# Altium footprint library OTHER.PCBLIB: 126 footprints (part 6 of 8)
Each footprint in its own frame and in the unit in brackets; x right, y up, seen from the top. Pads: shape width x height; smd on the part's side, far side on the other; paste and mask are expansions set on the pad; w line width, h text height; cw(c..) or ccw(c..) is an arc to the next point about the centre after c.
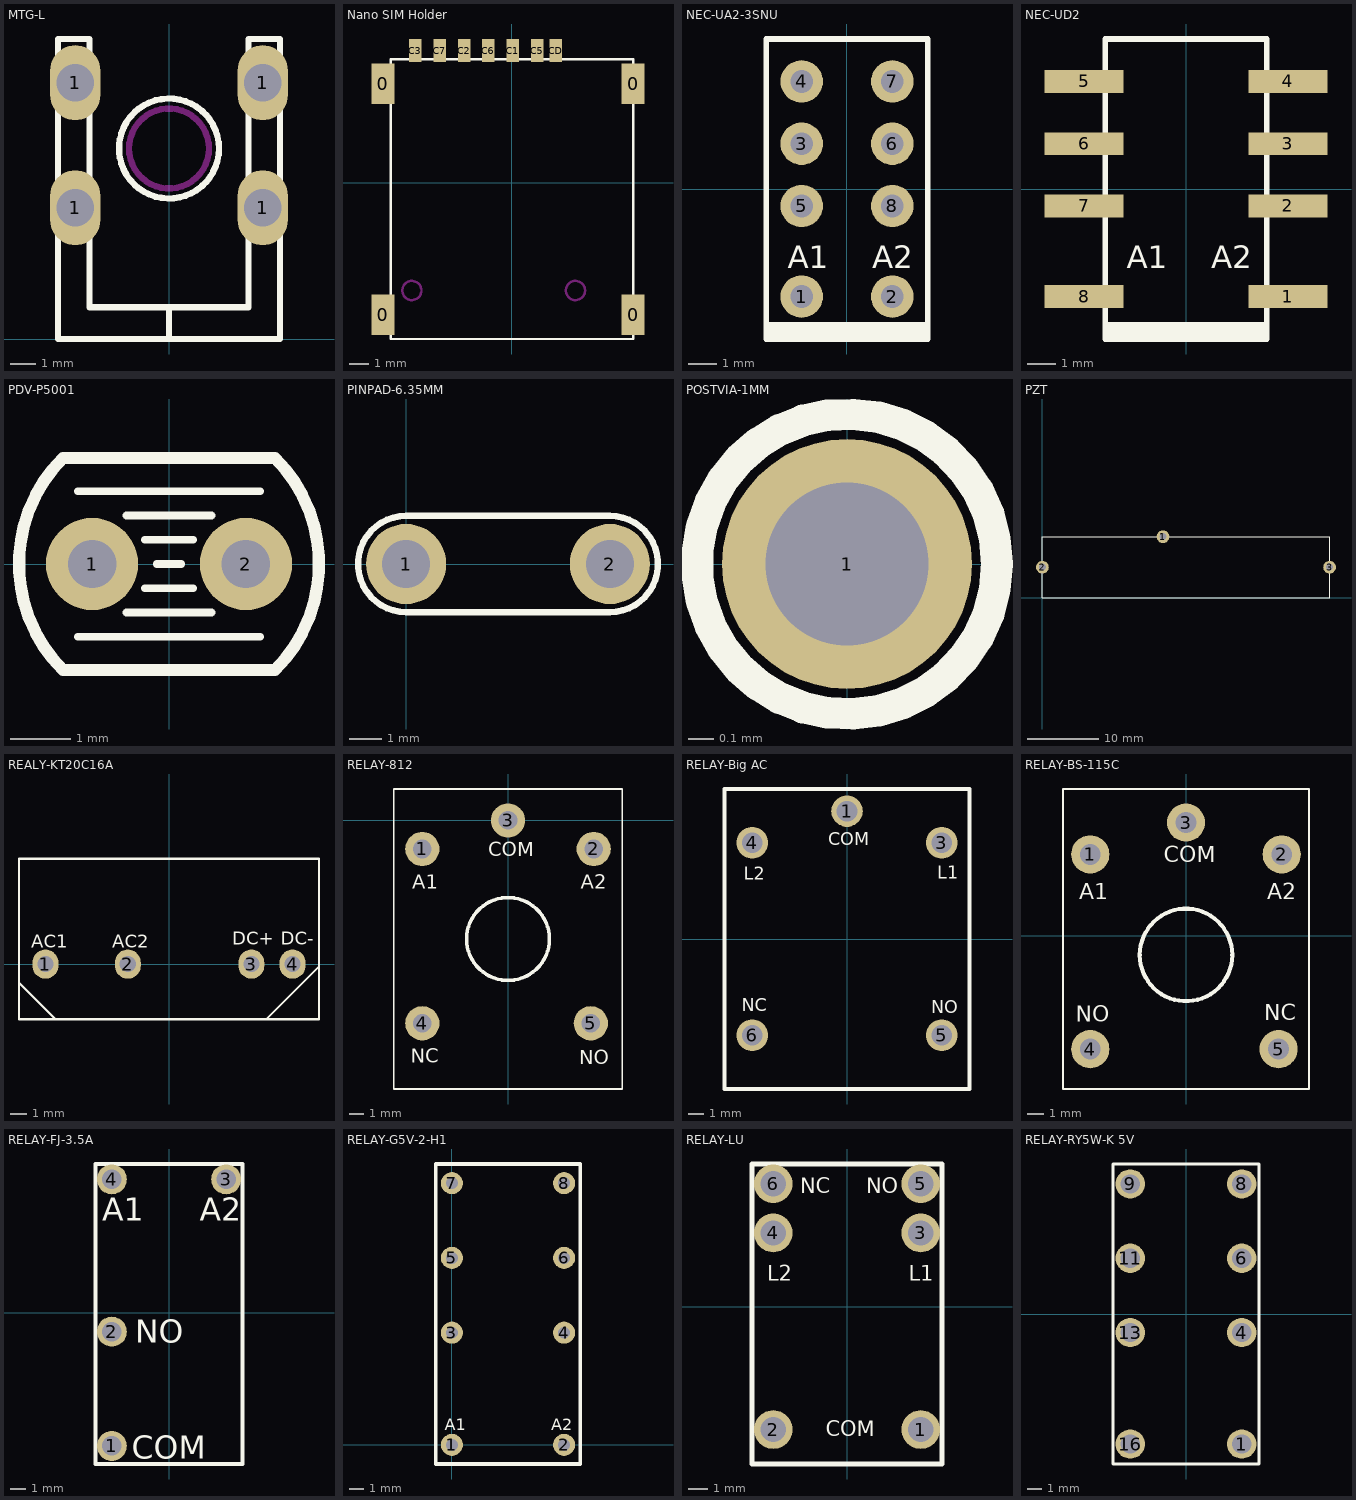
[diagram p5: the footprints below, top view; thin cyan lines are the x and y axes]

## MTG-L [mm]
pads (4):
  oval 2x3 hole 1.5: 1(-3.75,5.25) 1(-3.75,10.25) 1(3.75,5.25) 1(3.75,10.25)
TopOverlay:
  circle w0.254: c0,7.62 r2
  lines w0.25: 0,1.27 0,0 ; 0,0 4.445,0 4.445,12 3.175,12 3.175,1.27 -3.175,1.27 -3.175,12 -4.445,12 -4.445,0 0,0
KeepOutLayer:
  circle w0.254: c0,7.62 r1.6

## Nano SIM Holder [mm] "Nano SIM Holder"
pads (11):
  rect 1.2x2.1 smd: 0(-6.702,-6.857) 0(-6.702,5.143) 0(6.288,-6.857) 0(6.288,5.143)
  rect 0.65x1.2 smd: C1(0.048,6.858) C2(-2.492,6.858) C3(-5.032,6.858) C5(1.318,6.858) C6(-1.222,6.858) C7(-3.762,6.858) CD(2.268,6.858)
TopOverlay:
  lines w0.127: -6.297,-8.127 6.298,-8.127 6.298,6.413 -6.297,6.413 -6.297,-8.127
KeepOutLayer:
  circle w0.127: c3.298,-5.607 r0.5
  circle w0.127: c-5.202,-5.607 r0.5

## NEC-UA2-3SNU [mm]
pads (8):
  round 1.5 hole 0.8: 1(-1.6,-3.8) 2(1.6,-3.8) 3(-1.6,1.6) 4(-1.6,3.8) 5(-1.6,-0.6) 6(1.6,1.6) 7(1.6,3.8) 8(1.6,-0.6)
TopOverlay:
  rectangle: -2.85,-5.3 2.85,-4.7
  lines w0.2: -2.85,-5.3 2.85,-5.3 2.85,5.3 -2.85,5.3 -2.85,-5.3
  text "A1" at -2.1,-2.8 h0.8
  text "A2" at 0.9,-2.8 h0.8

## NEC-UD2 [mm]
pads (8):
  rect 2.8x0.8 smd: 1(3.6,-3.8) 2(3.6,-0.6) 3(3.6,1.6) 4(3.6,3.8) 5(-3.6,3.8) 6(-3.6,1.6) 7(-3.6,-0.6) 8(-3.6,-3.8)
TopOverlay:
  rectangle: -2.85,-5.3 2.85,-4.7
  lines w0.2: -2.85,-5.3 2.85,-5.3 2.85,5.3 -2.85,5.3 -2.85,-5.3
  text "A1" at -2.1,-2.8 h0.8
  text "A2" at 0.9,-2.8 h0.8

## PDV-P5001 [mil]
pads (2):
  round 60 hole 31.5: 1(-50,0) 2(50,0)
TopOverlay:
  lines w5: -59.06,-47.24 59.06,-47.24 ; -59.06,47.24 59.06,47.24 ; -27.56,-31.5 27.56,-31.5 ; -27.56,31.5 27.56,31.5 ; -15.75,-15.75 15.75,-15.75 ; -15.75,15.75 15.75,15.75 ; -7.87,0 7.87,0
  lines w7.87: -68.9,-68.9 cw(c0,0) -68.9,68.9 68.9,68.9 cw(c0,0) 68.9,-68.9 -68.9,-68.9

## PINPAD-6.35MM [mm]
pads (2):
  round 2.5 hole 1.5: 1(0,0) 2(6.35,0)
TopOverlay:
  lines w0.2: 0,-1.5 cw(c0,0) 0,1.5 6.35,1.5 cw(c6.35,0) 6.35,-1.5 0,-1.5

## POSTVIA-1MM [mm]
pads (1):
  round 1 hole 0.65: 1(0,0)
TopOverlay:
  circle w0.127: c0,0 r0.6

## PZT [mm]
pads (3):
  round 1.8 hole 1: 1(17,8.6) 2(0,4.3) 3(40.5,4.3)
TopOverlay:
  lines w0.127: 0,0 0,8.6 40.5,8.6 40.5,0 0,0

## REALY-KT20C16A [mm]
pads (4):
  oval 1.6x1.8 hole 1: 1(-7.62,0) 2(-2.54,0) 3(5.08,0) 4(7.62,0)
TopOverlay:
  lines w0.127: -9.25,-1.15 -7,-3.4 ; 6,-3.4 9.2,-0.2 ; -9.25,-3.4 9.25,-3.4 9.25,6.5 -9.25,6.5 -9.25,-3.4
  text "DC+" at 3.9,1.2 h0.8
  text "DC-" at 6.9,1.2 h0.8
  text "AC2" at -3.5,1 h0.8
  text "AC1" at -8.5,1 h0.8

## RELAY-812 [mm]
pads (5):
  round 2.4 hole 1.3: 1(-6,-2) 2(6,-2) 3(0,0) 4(-6,-14.2) 5(5.8,-14.2)
TopOverlay:
  circle w0.254: c0,-8.3 r2.9
  lines w0.127: -8,-18.8 8,-18.8 8,2.2 -8,2.2 -8,-18.8
  text "A2" at 5.1,-4.8 h1
  text "NO" at 5,-17.05 h1
  text "NC" at -6.8,-16.95 h1
  text "A1" at -6.7,-4.8 h1
  text "COM" at -1.4,-2.5 h1

## RELAY-Big AC [mm] "RELAY-Big AC"
pads (5):
  round 2 hole 1.3: 1(0,8.1) 3(6,6.1) 4(-6,6.1) 5(6,-6.1) 6(-6,-6.1)
TopOverlay:
  lines w0.254: -7.75,-9.5 -7.75,9.5 7.75,9.5 7.75,-9.5 -7.75,-9.5
  text "L2" at -6.525,3.75 h0.8
  text "L1" at 5.725,3.8 h0.8
  text "COM" at -1.2,5.925 h0.8
  text "NO" at 5.325,-4.7 h0.8
  text "NC" at -6.65,-4.575 h0.8

## RELAY-BS-115C [mm]
pads (5):
  round 2.4 hole 1.3: 1(-6,5.1) 2(6,5.1) 3(0,7.1) 4(-6,-7.1) 5(5.8,-7.1)
TopOverlay:
  circle w0.254: c0,-1.2 r2.9
  lines w0.127: -7.7,-9.6 -7.7,9.2 7.7,9.2 7.7,-9.6 -7.7,-9.6
  text "COM" at -1.4,4.6 h1
  text "A1" at -6.7,2.3 h1
  text "NO" at -6.9,-5.4 h1
  text "NC" at 4.9,-5.3 h1
  text "A2" at 5.1,2.3 h1

## RELAY-FJ-3.5A [mm]
pads (4):
  round 2 hole 1.3: 1(-3.81,-8.89) 2(-3.81,-1.27) 3(3.81,8.89) 4(-3.81,8.89)
TopOverlay:
  lines w0.254: -4.9,-10.09 4.9,-10.09 4.9,9.91 -4.9,9.91 -4.9,-10.09
  text "NO" at -2.25,-2 h1.52
  text "COM" at -2.5,-9.75 h1.52
  text "A1" at -4.44,6.11 h1.52
  text "A2" at 2.06,6.11 h1.52

## RELAY-G5V-2-H1 [mm]
pads (8):
  round 1.5 hole 0.8: 1(0,0) 2(7.62,0) 3(0,7.62) 4(7.62,7.62) 5(0,12.7) 6(7.62,12.7) 7(0,17.78) 8(7.62,17.78)
TopOverlay:
  lines w0.254: -1.09,-1.3 -1.09,19.08 8.71,19.08 8.71,-1.3 -1.09,-1.3
  text "A2" at 6.75,1 h0.8
  text "A1" at -0.5,1 h0.8

## RELAY-LU [mm]
pads (6):
  round 2 hole 1.3: 1(3.81,-6.35) 2(-3.81,-6.35) 3(3.81,3.81) 4(-3.81,3.81) 5(3.81,6.35) 6(-3.81,6.35)
TopOverlay:
  lines w0.254: -4.9,-8.13 -4.9,7.37 4.9,7.37 4.9,-8.13 -4.9,-8.13
  text "L2" at -4.11,1.35 h0.8
  text "L1" at 3.19,1.35 h0.8
  text "COM" at -1.1,-6.7 h0.8
  text "NO" at 0.99,5.85 h0.8
  text "NC" at -2.41,5.85 h0.8

## RELAY-RY5W-K 5V [mm] "RELAY-RY5W-K 5V"
pads (8):
  round 2 hole 1.3: 1(3.81,-8.89) 4(3.81,-1.27) 6(3.81,3.81) 8(3.81,8.89) 9(-3.81,8.89) 11(-3.81,3.81) 13(-3.81,-1.27) 16(-3.81,-8.89)
TopOverlay:
  lines w0.2: -5,-10.25 5,-10.25 5,10.25 -5,10.25 -5,-10.25